# EAGLE library part DLP_USB245M (library harrison)
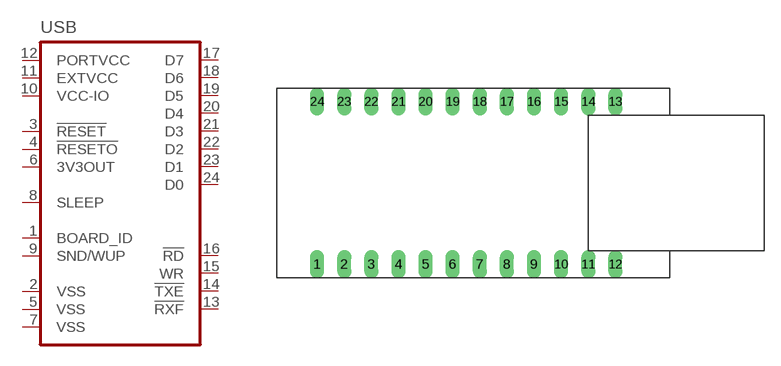
[diagram p28: symbol with the pads of DLP_USB245M; footprint DLP_USB245M]

Designator prefix USB

## DLP_USB245M  [DLP_USB245M]
1  BOARD_ID  out
2  VSS  pwr
3  !RESET!  in
4  !RESETO!  out
5  VSS  pwr
6  3V3OUT  pwr
7  VSS  pwr
8  SLEEP  out
9  SND/WUP  in
10  VCC-IO  pwr
11  EXTVCC  pwr
12  PORTVCC  pwr
13  !RXF  out
14  !TXE!  out
15  WR  in
16  !RD!  in
17  D7
18  D6
19  D5
20  D4
21  D3
22  D2
23  D1
24  D0

## Footprint DLP_USB245M (pad centres in mm)
drill 0.813 long: 1 -13.97,-7.62; 2 -11.43,-7.62; 3 -8.89,-7.62; 4 -6.35,-7.62; 5 -3.81,-7.62; 6 -1.27,-7.62; 7 1.27,-7.62; 8 3.81,-7.62; 9 6.35,-7.62; 10 8.89,-7.62; 11 11.43,-7.62; 12 13.97,-7.62; 13 13.97,7.62; 14 11.43,7.62; 15 8.89,7.62; 16 6.35,7.62; 17 3.81,7.62; 18 1.27,7.62; 19 -1.27,7.62; 20 -3.81,7.62; 21 -6.35,7.62; 22 -8.89,7.62; 23 -11.43,7.62; 24 -13.97,7.62